# Altium footprint library Inductor_SMD.PcbLib: 587 footprints (part 27 of 37)
Each footprint in its own frame and in the unit in brackets; x right, y up, seen from the top. Pads: shape width x height; smd on the part's side, far side on the other; paste and mask are expansions set on the pad; w line width, h text height; cw(c..) or ccw(c..) is an arc to the next point about the centre after c.
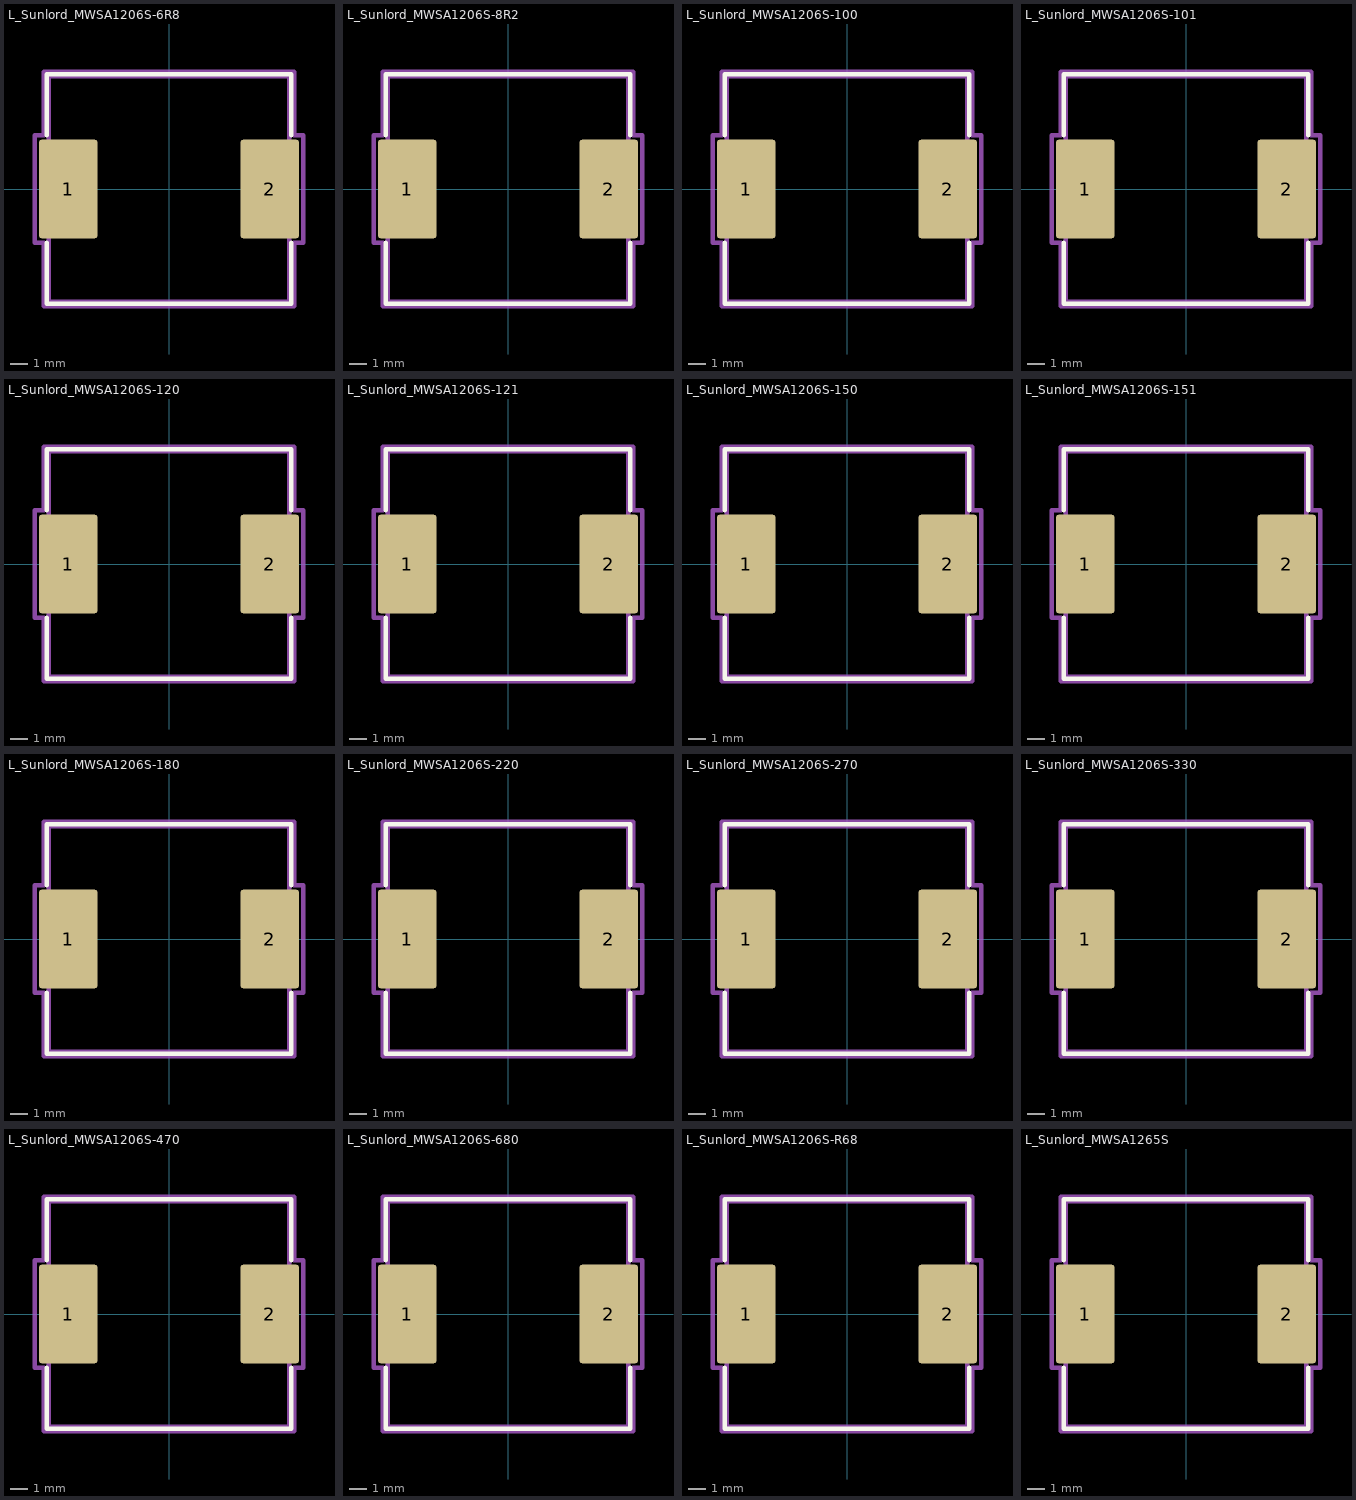
[diagram p26: the footprints below, top view; thin cyan lines are the x and y axes]

## L_Sunlord_MWSA1206S-6R8 [mm] "L_Sunlord_MWSA1206S-6R8"
pads (2):
  rrect8% 3.25x5.5 smd: 1(-5.625,0) 2(5.625,0)
F.SilkS:
  lines w0.254: -6.835,-3.01 -6.835,-6.41 6.835,-6.41 6.835,-3.01 ; -6.835,3.01 -6.835,6.41 6.835,6.41 6.835,3.01
Top Assembly:
  lines w0.254: -6.725,-6.3 -6.725,6.3 6.725,6.3 6.725,-6.3 -6.725,-6.3
  text "'.Designator'" at -4.047,-0.84 h1
Top Courtyard:
  lines w0.254: -7.5,-3 -7.5,3 -6.98,3 -6.98,6.55 6.98,6.55 6.98,3 7.5,3 7.5,-3 6.98,-3 6.98,-6.55 -6.98,-6.55 -6.98,-3 -7.5,-3
Top Designator:
  text ".Designator" at -7.618,-0.508 h1.52
3D body "L_Sunlord_MWSA1206S-6R8.step": height 5.8, standoff 0, extent -6.73,-6.3 6.73,6.3

## L_Sunlord_MWSA1206S-8R2 [mm] "L_Sunlord_MWSA1206S-8R2"
pads (2):
  rrect8% 3.25x5.5 smd: 1(-5.625,0) 2(5.625,0)
F.SilkS:
  lines w0.254: -6.835,-3.01 -6.835,-6.41 6.835,-6.41 6.835,-3.01 ; -6.835,3.01 -6.835,6.41 6.835,6.41 6.835,3.01
Top Assembly:
  lines w0.254: -6.725,-6.3 6.725,-6.3 6.725,6.3 -6.725,6.3 -6.725,-6.3
  text "'.Designator'" at -4.047,-0.84 h1
Top Courtyard:
  lines w0.254: -7.5,-3 -6.98,-3 -6.98,-6.55 6.98,-6.55 6.98,-3 7.5,-3 7.5,3 6.98,3 6.98,6.55 -6.98,6.55 -6.98,3 -7.5,3 -7.5,-3
Top Designator:
  text ".Designator" at -7.618,-0.508 h1.52
3D body "L_Sunlord_MWSA1206S-8R2.step": height 5.8, standoff 0, extent -6.73,-6.3 6.73,6.3

## L_Sunlord_MWSA1206S-100 [mm] "L_Sunlord_MWSA1206S-100"
pads (2):
  rrect8% 3.25x5.5 smd: 1(-5.625,0) 2(5.625,0)
F.SilkS:
  lines w0.254: -6.835,-3.01 -6.835,-6.41 6.835,-6.41 6.835,-3.01 ; -6.835,3.01 -6.835,6.41 6.835,6.41 6.835,3.01
Top Assembly:
  lines w0.254: -6.725,-6.3 6.725,-6.3 6.725,6.3 -6.725,6.3 -6.725,-6.3
  text "'.Designator'" at -4.047,-0.84 h1
Top Courtyard:
  lines w0.254: -7.5,-3 -6.98,-3 -6.98,-6.55 6.98,-6.55 6.98,-3 7.5,-3 7.5,3 6.98,3 6.98,6.55 -6.98,6.55 -6.98,3 -7.5,3 -7.5,-3
Top Designator:
  text ".Designator" at -7.618,-0.508 h1.52
3D body "L_Sunlord_MWSA1206S-100.step": height 5.8, standoff 0, extent -6.73,-6.3 6.73,6.3

## L_Sunlord_MWSA1206S-101 [mm] "L_Sunlord_MWSA1206S-101"
pads (2):
  rrect8% 3.25x5.5 smd: 1(-5.625,0) 2(5.625,0)
F.SilkS:
  lines w0.254: -6.835,-3.01 -6.835,-6.41 6.835,-6.41 6.835,-3.01 ; -6.835,3.01 -6.835,6.41 6.835,6.41 6.835,3.01
Top Assembly:
  lines w0.254: -6.725,-6.3 -6.725,6.3 6.725,6.3 6.725,-6.3 -6.725,-6.3
  text "'.Designator'" at -4.047,-0.84 h1
Top Courtyard:
  lines w0.254: -7.5,-3 -7.5,3 -6.98,3 -6.98,6.55 6.98,6.55 6.98,3 7.5,3 7.5,-3 6.98,-3 6.98,-6.55 -6.98,-6.55 -6.98,-3 -7.5,-3
Top Designator:
  text ".Designator" at -7.618,-0.508 h1.52
3D body "L_Sunlord_MWSA1206S-101.step": height 5.8, standoff 0, extent -6.73,-6.3 6.73,6.3

## L_Sunlord_MWSA1206S-120 [mm] "L_Sunlord_MWSA1206S-120"
pads (2):
  rrect8% 3.25x5.5 smd: 1(-5.625,0) 2(5.625,0)
F.SilkS:
  lines w0.254: -6.835,-3.01 -6.835,-6.41 6.835,-6.41 6.835,-3.01 ; -6.835,3.01 -6.835,6.41 6.835,6.41 6.835,3.01
Top Assembly:
  lines w0.254: -6.725,-6.3 -6.725,6.3 6.725,6.3 6.725,-6.3 -6.725,-6.3
  text "'.Designator'" at -4.047,-0.84 h1
Top Courtyard:
  lines w0.254: -7.5,-3 -7.5,3 -6.98,3 -6.98,6.55 6.98,6.55 6.98,3 7.5,3 7.5,-3 6.98,-3 6.98,-6.55 -6.98,-6.55 -6.98,-3 -7.5,-3
Top Designator:
  text ".Designator" at -7.618,-0.508 h1.52
3D body "L_Sunlord_MWSA1206S-120.step": height 5.8, standoff 0, extent -6.73,-6.3 6.73,6.3

## L_Sunlord_MWSA1206S-121 [mm] "L_Sunlord_MWSA1206S-121"
pads (2):
  rrect8% 3.25x5.5 smd: 1(-5.625,0) 2(5.625,0)
F.SilkS:
  lines w0.254: -6.835,-3.01 -6.835,-6.41 6.835,-6.41 6.835,-3.01 ; -6.835,3.01 -6.835,6.41 6.835,6.41 6.835,3.01
Top Assembly:
  lines w0.254: -6.725,-6.3 -6.725,6.3 6.725,6.3 6.725,-6.3 -6.725,-6.3
  text "'.Designator'" at -4.047,-0.84 h1
Top Courtyard:
  lines w0.254: -7.5,-3 -7.5,3 -6.98,3 -6.98,6.55 6.98,6.55 6.98,3 7.5,3 7.5,-3 6.98,-3 6.98,-6.55 -6.98,-6.55 -6.98,-3 -7.5,-3
Top Designator:
  text ".Designator" at -7.618,-0.508 h1.52
3D body "L_Sunlord_MWSA1206S-121.step": height 5.8, standoff 0, extent -6.73,-6.3 6.73,6.3

## L_Sunlord_MWSA1206S-150 [mm] "L_Sunlord_MWSA1206S-150"
pads (2):
  rrect8% 3.25x5.5 smd: 1(-5.625,0) 2(5.625,0)
F.SilkS:
  lines w0.254: -6.835,-3.01 -6.835,-6.41 6.835,-6.41 6.835,-3.01 ; -6.835,3.01 -6.835,6.41 6.835,6.41 6.835,3.01
Top Assembly:
  lines w0.254: -6.725,-6.3 -6.725,6.3 6.725,6.3 6.725,-6.3 -6.725,-6.3
  text "'.Designator'" at -4.047,-0.84 h1
Top Courtyard:
  lines w0.254: -7.5,-3 -7.5,3 -6.98,3 -6.98,6.55 6.98,6.55 6.98,3 7.5,3 7.5,-3 6.98,-3 6.98,-6.55 -6.98,-6.55 -6.98,-3 -7.5,-3
Top Designator:
  text ".Designator" at -7.618,-0.508 h1.52
3D body "L_Sunlord_MWSA1206S-150.step": height 5.8, standoff 0, extent -6.73,-6.3 6.73,6.3

## L_Sunlord_MWSA1206S-151 [mm] "L_Sunlord_MWSA1206S-151"
pads (2):
  rrect8% 3.25x5.5 smd: 1(-5.625,0) 2(5.625,0)
F.SilkS:
  lines w0.254: -6.835,-3.01 -6.835,-6.41 6.835,-6.41 6.835,-3.01 ; -6.835,3.01 -6.835,6.41 6.835,6.41 6.835,3.01
Top Assembly:
  lines w0.254: -6.725,-6.3 -6.725,6.3 6.725,6.3 6.725,-6.3 -6.725,-6.3
  text "'.Designator'" at -4.047,-0.84 h1
Top Courtyard:
  lines w0.254: -7.5,-3 -7.5,3 -6.98,3 -6.98,6.55 6.98,6.55 6.98,3 7.5,3 7.5,-3 6.98,-3 6.98,-6.55 -6.98,-6.55 -6.98,-3 -7.5,-3
Top Designator:
  text ".Designator" at -7.618,-0.508 h1.52
3D body "L_Sunlord_MWSA1206S-151.step": height 5.8, standoff 0, extent -6.73,-6.3 6.73,6.3

## L_Sunlord_MWSA1206S-180 [mm] "L_Sunlord_MWSA1206S-180"
pads (2):
  rrect8% 3.25x5.5 smd: 1(-5.625,0) 2(5.625,0)
F.SilkS:
  lines w0.254: -6.835,-3.01 -6.835,-6.41 6.835,-6.41 6.835,-3.01 ; -6.835,3.01 -6.835,6.41 6.835,6.41 6.835,3.01
Top Assembly:
  lines w0.254: -6.725,-6.3 6.725,-6.3 6.725,6.3 -6.725,6.3 -6.725,-6.3
  text "'.Designator'" at -4.047,-0.84 h1
Top Courtyard:
  lines w0.254: -7.5,-3 -6.98,-3 -6.98,-6.55 6.98,-6.55 6.98,-3 7.5,-3 7.5,3 6.98,3 6.98,6.55 -6.98,6.55 -6.98,3 -7.5,3 -7.5,-3
Top Designator:
  text ".Designator" at -7.618,-0.508 h1.52
3D body "L_Sunlord_MWSA1206S-180.step": height 5.8, standoff 0, extent -6.73,-6.3 6.73,6.3

## L_Sunlord_MWSA1206S-220 [mm] "L_Sunlord_MWSA1206S-220"
pads (2):
  rrect8% 3.25x5.5 smd: 1(-5.625,0) 2(5.625,0)
F.SilkS:
  lines w0.254: -6.835,-3.01 -6.835,-6.41 6.835,-6.41 6.835,-3.01 ; -6.835,3.01 -6.835,6.41 6.835,6.41 6.835,3.01
Top Assembly:
  lines w0.254: -6.725,-6.3 -6.725,6.3 6.725,6.3 6.725,-6.3 -6.725,-6.3
  text "'.Designator'" at -4.047,-0.84 h1
Top Courtyard:
  lines w0.254: -7.5,-3 -7.5,3 -6.98,3 -6.98,6.55 6.98,6.55 6.98,3 7.5,3 7.5,-3 6.98,-3 6.98,-6.55 -6.98,-6.55 -6.98,-3 -7.5,-3
Top Designator:
  text ".Designator" at -7.618,-0.508 h1.52
3D body "L_Sunlord_MWSA1206S-220.step": height 5.8, standoff 0, extent -6.73,-6.3 6.73,6.3

## L_Sunlord_MWSA1206S-270 [mm] "L_Sunlord_MWSA1206S-270"
pads (2):
  rrect8% 3.25x5.5 smd: 1(-5.625,0) 2(5.625,0)
F.SilkS:
  lines w0.254: -6.835,-3.01 -6.835,-6.41 6.835,-6.41 6.835,-3.01 ; -6.835,3.01 -6.835,6.41 6.835,6.41 6.835,3.01
Top Assembly:
  lines w0.254: -6.725,-6.3 -6.725,6.3 6.725,6.3 6.725,-6.3 -6.725,-6.3
  text "'.Designator'" at -4.047,-0.84 h1
Top Courtyard:
  lines w0.254: -7.5,-3 -7.5,3 -6.98,3 -6.98,6.55 6.98,6.55 6.98,3 7.5,3 7.5,-3 6.98,-3 6.98,-6.55 -6.98,-6.55 -6.98,-3 -7.5,-3
Top Designator:
  text ".Designator" at -7.618,-0.508 h1.52
3D body "L_Sunlord_MWSA1206S-270.step": height 5.8, standoff 0, extent -6.73,-6.3 6.73,6.3

## L_Sunlord_MWSA1206S-330 [mm] "L_Sunlord_MWSA1206S-330"
pads (2):
  rrect8% 3.25x5.5 smd: 1(-5.625,0) 2(5.625,0)
F.SilkS:
  lines w0.254: -6.835,-3.01 -6.835,-6.41 6.835,-6.41 6.835,-3.01 ; -6.835,3.01 -6.835,6.41 6.835,6.41 6.835,3.01
Top Assembly:
  lines w0.254: -6.725,-6.3 -6.725,6.3 6.725,6.3 6.725,-6.3 -6.725,-6.3
  text "'.Designator'" at -4.047,-0.84 h1
Top Courtyard:
  lines w0.254: -7.5,-3 -7.5,3 -6.98,3 -6.98,6.55 6.98,6.55 6.98,3 7.5,3 7.5,-3 6.98,-3 6.98,-6.55 -6.98,-6.55 -6.98,-3 -7.5,-3
Top Designator:
  text ".Designator" at -7.618,-0.508 h1.52
3D body "L_Sunlord_MWSA1206S-330.step": height 5.8, standoff 0, extent -6.73,-6.3 6.73,6.3

## L_Sunlord_MWSA1206S-470 [mm] "L_Sunlord_MWSA1206S-470"
pads (2):
  rrect8% 3.25x5.5 smd: 1(-5.625,0) 2(5.625,0)
F.SilkS:
  lines w0.254: -6.835,-3.01 -6.835,-6.41 6.835,-6.41 6.835,-3.01 ; -6.835,3.01 -6.835,6.41 6.835,6.41 6.835,3.01
Top Assembly:
  lines w0.254: -6.725,-6.3 -6.725,6.3 6.725,6.3 6.725,-6.3 -6.725,-6.3
  text "'.Designator'" at -4.047,-0.84 h1
Top Courtyard:
  lines w0.254: -7.5,-3 -7.5,3 -6.98,3 -6.98,6.55 6.98,6.55 6.98,3 7.5,3 7.5,-3 6.98,-3 6.98,-6.55 -6.98,-6.55 -6.98,-3 -7.5,-3
Top Designator:
  text ".Designator" at -7.618,-0.508 h1.52
3D body "L_Sunlord_MWSA1206S-470.step": height 5.8, standoff 0, extent -6.73,-6.3 6.73,6.3

## L_Sunlord_MWSA1206S-680 [mm] "L_Sunlord_MWSA1206S-680"
pads (2):
  rrect8% 3.25x5.5 smd: 1(-5.625,0) 2(5.625,0)
F.SilkS:
  lines w0.254: -6.835,-3.01 -6.835,-6.41 6.835,-6.41 6.835,-3.01 ; -6.835,3.01 -6.835,6.41 6.835,6.41 6.835,3.01
Top Assembly:
  lines w0.254: -6.725,-6.3 6.725,-6.3 6.725,6.3 -6.725,6.3 -6.725,-6.3
  text "'.Designator'" at -4.047,-0.84 h1
Top Courtyard:
  lines w0.254: -7.5,-3 -6.98,-3 -6.98,-6.55 6.98,-6.55 6.98,-3 7.5,-3 7.5,3 6.98,3 6.98,6.55 -6.98,6.55 -6.98,3 -7.5,3 -7.5,-3
Top Designator:
  text ".Designator" at -7.618,-0.508 h1.52
3D body "L_Sunlord_MWSA1206S-680.step": height 5.8, standoff 0, extent -6.73,-6.3 6.73,6.3

## L_Sunlord_MWSA1206S-R68 [mm] "L_Sunlord_MWSA1206S-R68"
pads (2):
  rrect8% 3.25x5.5 smd: 1(-5.625,0) 2(5.625,0)
F.SilkS:
  lines w0.254: -6.835,-3.01 -6.835,-6.41 6.835,-6.41 6.835,-3.01 ; -6.835,3.01 -6.835,6.41 6.835,6.41 6.835,3.01
Top Assembly:
  lines w0.254: -6.725,-6.3 6.725,-6.3 6.725,6.3 -6.725,6.3 -6.725,-6.3
  text "'.Designator'" at -4.047,-0.84 h1
Top Courtyard:
  lines w0.254: -7.5,-3 -6.98,-3 -6.98,-6.55 6.98,-6.55 6.98,-3 7.5,-3 7.5,3 6.98,3 6.98,6.55 -6.98,6.55 -6.98,3 -7.5,3 -7.5,-3
Top Designator:
  text ".Designator" at -7.618,-0.508 h1.52
3D body "L_Sunlord_MWSA1206S-R68.step": height 5.8, standoff 0, extent -6.73,-6.3 6.73,6.3

## L_Sunlord_MWSA1265S [mm] "L_Sunlord_MWSA1265S"
pads (2):
  rrect8% 3.25x5.5 smd: 1(-5.625,0) 2(5.625,0)
F.SilkS:
  lines w0.254: -6.835,-3.01 -6.835,-6.41 6.835,-6.41 6.835,-3.01 ; -6.835,3.01 -6.835,6.41 6.835,6.41 6.835,3.01
Top Assembly:
  lines w0.254: -6.725,-6.3 -6.725,6.3 6.725,6.3 6.725,-6.3 -6.725,-6.3
  text "'.Designator'" at -4.047,-0.84 h1
Top Courtyard:
  lines w0.254: -7.5,-3 -7.5,3 -6.98,3 -6.98,6.55 6.98,6.55 6.98,3 7.5,3 7.5,-3 6.98,-3 6.98,-6.55 -6.98,-6.55 -6.98,-3 -7.5,-3
Top Designator:
  text ".Designator" at -7.618,-0.508 h1.52
3D body "L_Sunlord_MWSA1265S.step": height 6.5, standoff 0, extent -6.73,-6.3 6.73,6.3